# Altium footprint library HSBNE-MOTOR.PcbLib: 33 footprints (part 1 of 3)
Each footprint in its own frame and in the unit in brackets; x right, y up, seen from the top. Pads: shape width x height; smd on the part's side, far side on the other; paste and mask are expansions set on the pad; w line width, h text height; cw(c..) or ccw(c..) is an arc to the next point about the centre after c.
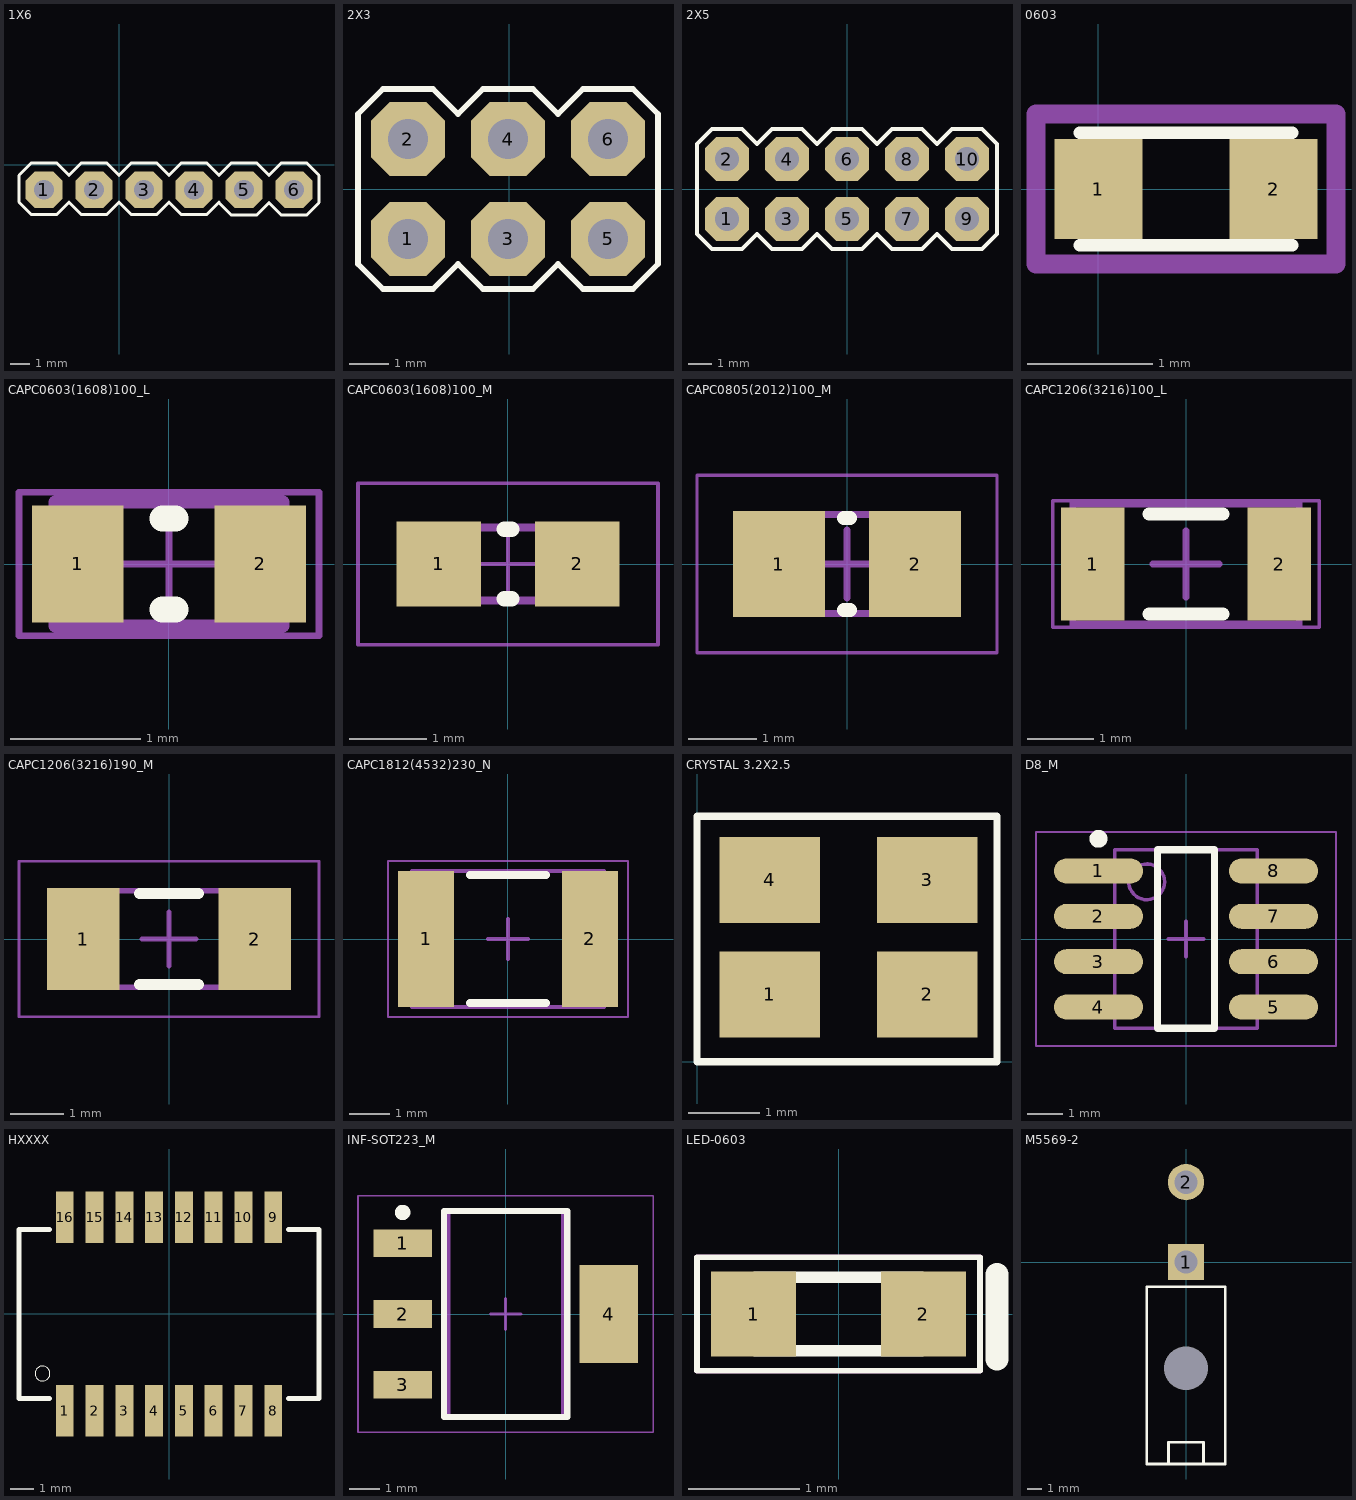
[diagram p0: the footprints below, top view; thin cyan lines are the x and y axes]

## 1X6 [mil]
pads (6):
  oct 74x74 hole 40: 1(-150,-50) 2(-50,-50) 3(50,-50) 4(150,-50) 5(250,-50) 6(350,-50)
Top Overlay:
  lines w6: 200,-76 225,-101 275,-101 300,-76 325,-101 375,-101 400,-76 400,-21 375,4 325,4 300,-21 275,4 225,4 200,-21 175,4 125,4 100,-21 75,4 25,4 0,-21 -25,4 -75,4 -100,-21 -125,4 -175,4 -200,-21 -200,-75 -175,-100 -125,-100 -100,-75 -75,-100 -25,-100 0,-75 25,-100 75,-100 100,-75 125,-100 175,-100 200,-75

## 2X3 [mil]
pads (6):
  oct 74x74 hole 40: 1(-101.18,-50) 2(-101.18,50) 3(-1.18,-50) 4(-1.18,50) 5(98.82,-50) 6(98.82,50)
Top Overlay:
  lines w6: -151.18,-75 -151.18,75 -126.18,100 -76.18,100 -51.18,75 -26.18,100 23.82,100 48.82,75 73.82,100 123.82,100 148.82,75 148.82,-75 123.82,-100 73.82,-100 48.82,-75 23.82,-100 -26.18,-100 -51.18,-75 -76.18,-100 -126.18,-100 -151.18,-75
3D body "User Library-HEADER, 2X3, 2_54MM X 2_54MM PITCH, VERT, TH.STEP": height 330, standoff -150, extent -150,-100 150,100

## 2X5 [mil]
pads (10):
  oct 74x74 hole 40: 1(-200,-50) 2(-200,50) 3(-100,-50) 4(-100,50) 5(0,-50) 6(0,50) 7(100,-50) 8(100,50) 9(200,-50) 10(200,50)
Top Overlay:
  lines w6: -250,-75 -225,-100 -175,-100 -150,-75 -125,-100 -75,-100 -50,-75 -25,-100 25,-100 50,-75 75,-100 125,-100 150,-75 175,-100 225,-100 250,-75 250,75 225,100 175,100 150,75 125,100 75,100 50,75 25,100 -25,100 -50,75 -75,100 -125,100 -150,75 -175,100 -225,100 -250,75 -250,-75
3D body "7731312210lf.stp": height 396.73, standoff -128.86, extent -242.13,-95.16 242.12,95

## 0603 [mm]
height 0.8
pads (2):
  rect 0.7x0.8 smd paste+0 mask+0.1: 1(0,0) 2(1.4,0)
Top Overlay:
  lines w0.1: -0.15,-0.45 1.55,-0.45 ; -0.15,0.45 1.55,0.45
Mechanical 2:
  lines w0.15: -0.5,-0.6 -0.5,0.6 1.9,0.6 1.9,-0.6 -0.5,-0.6
3D body: height 0.53, standoff 0, extent -0.15,-0.45 1.55,0.45

## CAPC0603(1608)100_L [mm] "Chip Capacitor, Body 1.6x0.8mm, Height 1.0mm, IPC High Density"
height 1
pads (2):
  rect 0.7x0.9 smd: 1(-0.7,0) 2(0.7,0)
Top Overlay:
  lines w0.2: -0.05,-0.35 0.05,-0.35 ; -0.05,0.35 0.05,0.35
Mechanical 13:
  lines w0.1: -0.875,-0.475 -0.875,0.475 0.875,0.475 0.875,-0.475 -0.875,-0.475
Mechanical 15:
  lines w0.05: -0.475,0 0.475,0 ; 0,-0.475 0,0.475 ; -1.15,-0.55 -1.15,0.55 1.15,0.55 1.15,-0.55 -1.15,-0.55
3D body: height 1, standoff 0, extent -0.525,-0.475 0.525,0.475
3D body: height 1, standoff 0, extent -0.875,-0.475 -0.525,0.475
3D body: height 1, standoff 0, extent 0.525,-0.475 0.875,0.475

## CAPC0603(1608)100_M [mm] "Chip Capacitor, Body 1.6x0.8mm, Height 1.0mm, IPC Low Density"
height 1
pads (2):
  rect 1.1x1.1 smd: 1(-0.9,0) 2(0.9,0)
Top Overlay:
  lines w0.2: -0.05,-0.45 0.05,-0.45 ; -0.05,0.45 0.05,0.45
Mechanical 13:
  lines w0.1: -0.875,-0.475 -0.875,0.475 0.875,0.475 0.875,-0.475 -0.875,-0.475
Mechanical 15:
  lines w0.05: -0.475,0 0.475,0 ; 0,-0.475 0,0.475 ; -1.95,-1.05 -1.95,1.05 1.95,1.05 1.95,-1.05 -1.95,-1.05
3D body: height 1, standoff 0, extent -0.525,-0.475 0.525,0.475
3D body: height 1, standoff 0, extent -0.875,-0.475 -0.525,0.475
3D body: height 1, standoff 0, extent 0.525,-0.475 0.875,0.475

## CAPC0805(2012)100_M [mm] "Chip Capacitor, Body 2.0x1.2mm, Height 1.0mm, IPC Low Density"
height 1
pads (2):
  rect 1.35x1.55 smd: 1(-1,0) 2(1,0)
Top Overlay:
  lines w0.2: -0.05,-0.675 0.05,-0.675 ; -0.05,0.675 0.05,0.675
Mechanical 13:
  lines w0.1: -1.1,-0.725 1.1,-0.725 1.1,0.725 -1.1,0.725 -1.1,-0.725
Mechanical 15:
  lines w0.05: -2.2,-1.3 2.2,-1.3 2.2,1.3 -2.2,1.3 -2.2,-1.3
  lines w0.1: -0.5,0 0.5,0 ; 0,-0.5 0,0.5
3D body: height 1, standoff 0, extent 0.6,-0.725 1.1,0.725
3D body: height 1, standoff 0, extent -1.1,-0.725 -0.6,0.725
3D body: height 1, standoff 0, extent -0.6,-0.725 0.6,0.725

## CAPC1206(3216)100_L [mm] "Chip Capacitor, Body 3.2x1.6mm, Height 1mm, IPC High Density"
height 1
pads (2):
  rect 0.95x1.7 smd: 1(-1.4,0) 2(1.4,0)
Top Overlay:
  lines w0.2: -0.55,-0.75 0.55,-0.75 ; -0.55,0.75 0.55,0.75
Mechanical 13:
  lines w0.1: -1.7,-0.9 1.7,-0.9 1.7,0.9 -1.7,0.9 -1.7,-0.9
Mechanical 15:
  lines w0.05: -2,-0.95 2,-0.95 2,0.95 -2,0.95 -2,-0.95
  lines w0.1: -0.5,0 0.5,0 ; 0,-0.5 0,0.5
3D body: height 1, standoff 0, extent 1.2,-0.9 1.7,0.9
3D body: height 1, standoff 0, extent -1.7,-0.9 -1.2,0.9
3D body: height 1, standoff 0, extent -1.2,-0.9 1.2,0.9

## CAPC1206(3216)190_M [mm] "Chip Capacitor, Body 3.2x1.6mm, Height 1.9mm, IPC Low Density"
height 1.9
pads (2):
  rect 1.35x1.9 smd: 1(-1.6,0) 2(1.6,0)
Top Overlay:
  lines w0.2: -0.55,-0.85 0.55,-0.85 ; -0.55,0.85 0.55,0.85
Mechanical 13:
  lines w0.1: -1.7,-0.9 -1.7,0.9 1.7,0.9 1.7,-0.9 -1.7,-0.9
Mechanical 15:
  lines w0.05: -2.8,-1.45 -2.8,1.45 2.8,1.45 2.8,-1.45 -2.8,-1.45
  lines w0.1: -0.5,0 0.5,0 ; 0,-0.5 0,0.5
3D body: height 1.9, standoff 0, extent -1.2,-0.9 1.2,0.9
3D body: height 1.9, standoff 0, extent -1.7,-0.9 -1.2,0.9
3D body: height 1.9, standoff 0, extent 1.2,-0.9 1.7,0.9

## CAPC1812(4532)230_N [mm] "Chip Capacitor, Body 4.5x3.2mm, Height 2.3mm, IPC Medium Density"
height 2.3
pads (2):
  rect 1.4x3.4 smd: 1(-2.05,0) 2(2.05,0)
Top Overlay:
  lines w0.2: -0.95,-1.6 0.95,-1.6 ; -0.95,1.6 0.95,1.6
Mechanical 13:
  lines w0.1: -2.4,-1.7 -2.4,1.7 2.4,1.7 2.4,-1.7 -2.4,-1.7
Mechanical 15:
  lines w0.05: -3,-1.95 -3,1.95 3,1.95 3,-1.95 -3,-1.95
  lines w0.1: -0.5,0 0.5,0 ; 0,-0.5 0,0.5
3D body: height 2.3, standoff 0, extent -1.8,-1.7 1.8,1.7
3D body: height 2.3, standoff 0, extent -2.4,-1.7 -1.8,1.7
3D body: height 2.3, standoff 0, extent 1.8,-1.7 2.4,1.7

## CRYSTAL 3.2X2.5 [mm]
pads (4):
  rect 1.4x1.2 smd: 1(1.016,0.94) 2(3.216,0.94) 3(3.216,2.54) 4(1.016,2.54)
Top Overlay:
  lines w0.1: 0,0 4.191,0 4.191,3.429 0,3.429 0,0
3D body "User Library-GeyerElectronics_KX6.STEP": height 0.56, standoff 0, extent 0.772,0.778 3.292,2.778

## D8_M [mm] "SOIC, 8-Leads, Body 4.9x3.9mm, Pitch 1.27mm, IPC Low Density"
height 1.75
pads (8):
  oval 2.5x0.7 smd: 1(-2.45,1.905) 2(-2.45,0.635) 3(-2.45,-0.635) 4(-2.45,-1.905) 5(2.45,-1.905) 6(2.45,-0.635) 7(2.45,0.635) 8(2.45,1.905)
Top Overlay:
  circle w0.25: c-2.45,2.805 r0.125
  lines w0.2: -0.8,-2.5 0.8,-2.5 0.8,2.5 -0.8,2.5 -0.8,-2.5
Mechanical 13:
  circle w0.1: c-1.1,1.6 r0.5
  lines w0.1: -2,-2.5 2,-2.5 2,2.5 -2,2.5 -2,-2.5
Mechanical 15:
  lines w0.05: -4.2,-3 4.2,-3 4.2,3 -4.2,3 -4.2,-3
  lines w0.1: -0.5,0 0.5,0 ; 0,-0.5 0,0.5
3D body: height 1.75, standoff 0.1, extent -2,-2.5 2,2.5

## HXXXX [mm]
pads (16):
  rect 0.76x2.2 smd: 1(-4.445,-4.128) 2(-3.175,-4.128) 3(-1.905,-4.128) 4(-0.635,-4.128) 5(0.635,-4.128) 6(1.905,-4.128) 7(3.175,-4.128) 8(4.445,-4.128) 9(4.445,4.127) 10(3.175,4.127) 11(1.905,4.127) 12(0.635,4.127) 13(-0.635,4.127) 14(-1.905,4.127) 15(-3.175,4.127) 16(-4.445,4.127)
Top Overlay:
  circle w0.008: c-5.397,-2.54 r0.318
  lines w0.203: -5.1,-3.6 -6.4,-3.6 -6.4,3.6 -5.1,3.6 ; 5.1,-3.6 6.4,-3.6 6.4,3.6 5.1,3.6
3D body: height 6, standoff 0, extent -6.375,-4.275 6.375,4.125

## INF-SOT223_M [mm] "SOT223, 4-Leads, Body 6.5x3.5mm, Pitch 2.3mm, IPC Low Density"
height 1.7
pads (4):
  rect 1.9x0.9 smd: 1(-3.35,2.3) 2(-3.35,0) 3(-3.35,-2.3)
  rect 1.9x3.2 smd: 4(3.35,0)
Top Overlay:
  circle w0.25: c-3.35,3.3 r0.125
  lines w0.2: -2,-3.35 -2,3.35 2,3.35 2,-3.35 -2,-3.35
Mechanical 13:
  lines w0.1: -1.85,-3.35 -1.85,3.35 1.85,3.35 1.85,-3.35 -1.85,-3.35
Mechanical 15:
  lines w0.05: -4.8,-3.85 -4.8,3.85 4.8,3.85 4.8,-3.85 -4.8,-3.85
  lines w0.1: -0.5,0 0.5,0 ; 0,-0.5 0,0.5
3D body: height 1.7, standoff 0.1, extent -1.85,-3.35 1.85,3.35

## LED-0603 [mil]
pads (2):
  rect 30x30 smd: 1(-30,0) 2(30,0)
Top Overlay:
  rectangle: 15,-15 30,15
  rectangle: -30,-15 -15,15
  lines w4: -20,-13 20,-13 ; -20,13 20,13
  lines w8: 56,-16 56,14
Top Overlay keep-out:
  lines w2: -50,-20 -50,20 50,20 50,-20 -50,-20

## M5569-2 [mm]
pads (3):
  rect 2.5x2.5 hole 1.6: 1(0,0)
  round 2.5 hole 1.6: 2(0,5.5)
  round 0 hole 3 unplated: A(0,-7.3)
Top Overlay:
  lines w0.2: -1.2,-13.9 -1.2,-12.4 1.2,-12.4 1.2,-13.9 ; -2.7,-13.9 2.7,-13.9 2.7,-1.7 -2.7,-1.7 -2.7,-13.9
3D body "039301020.stp": height 11.4, standoff -3.6, extent -2.72,-13.907 3.08,6.028